# Altium footprint library HANDS-FREEE-PcbLib-V1.9.PcbLib: 236 footprints (part 13 of 16)
Each footprint in its own frame and in the unit in brackets; x right, y up, seen from the top. Pads: shape width x height; smd on the part's side, far side on the other; paste and mask are expansions set on the pad; w line width, h text height; cw(c..) or ccw(c..) is an arc to the next point about the centre after c.
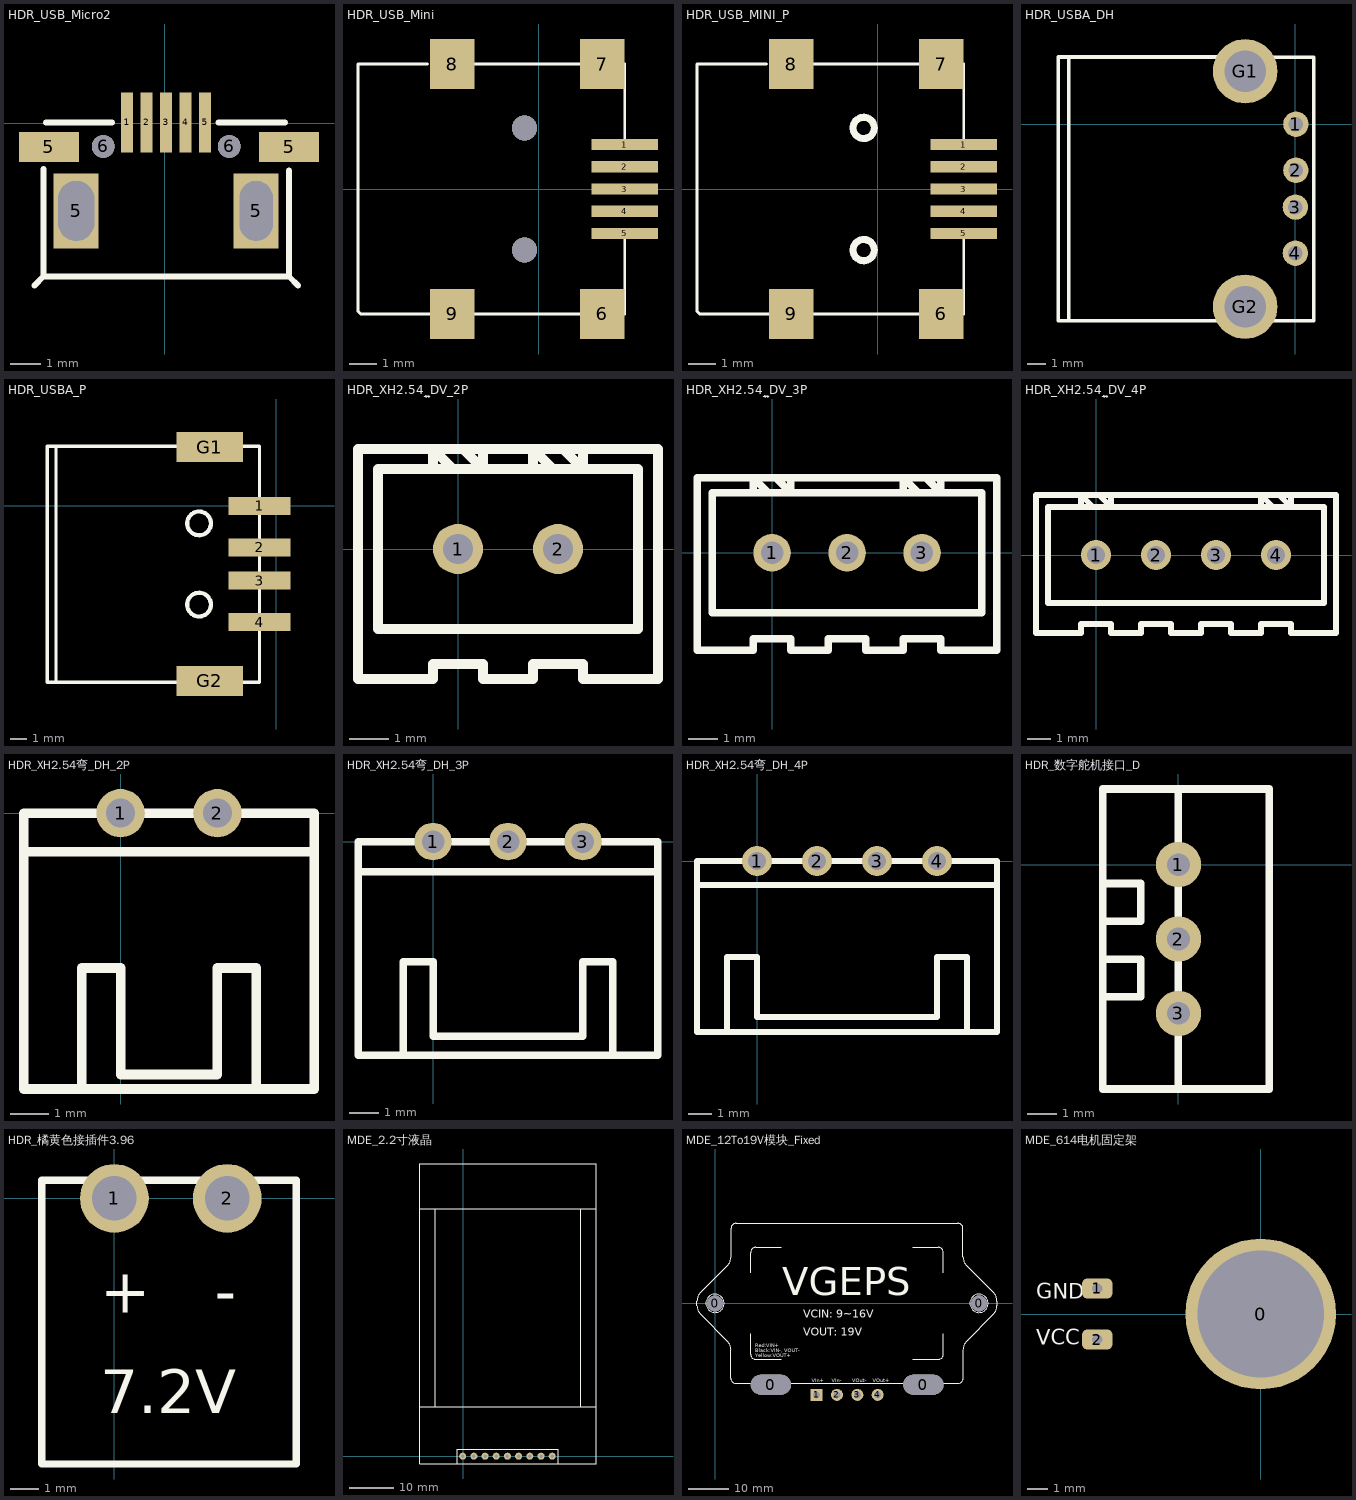
[diagram p12: the footprints below, top view; thin cyan lines are the x and y axes]

## HDR_USB_Micro2 [mm]
pads (11):
  rect 0.4x2 smd: 1(-1.252,0.029) 2(-0.602,0.029) 3(0.048,0.029) 4(0.698,0.029) 5(1.348,0.029)
  rect 2x1 smd: 5(-3.859,-0.784) 5(4.142,-0.784)
  rect 1.5x2.5 hole 1.2 slot 2 at 90 deg: 5(-2.952,-2.921)
  rect 1.5x2.5 hole 1.1 slot 2 at 90 deg: 5(3.048,-2.921)
  round 0.762 hole 0.762: 6(-2.052,-0.771) 6(2.148,-0.771)
Top Overlay:
  lines w0.2: -4.046,-1.52 -4.046,-5.109 4.142,-5.109 4.142,-1.571 ; -3.961,0.029 -1.76,0.029 ; 1.796,0.029 4.015,0.029
  lines w0.203: -4.349,-5.412 -4.046,-5.109 ; 4.142,-5.109 4.445,-5.412

## HDR_USB_Mini [mm]
pads (9):
  rect 2.4x0.4 smd: 1(3.1,1.6) 2(3.1,0.8) 3(3.1,0) 4(3.1,-0.8) 5(3.1,-1.6)
  rect 1.6x1.8 smd: 6(2.3,-4.5) 7(2.3,4.5) 8(-3.1,4.5) 9(-3.1,-4.5)
via -0.5,2.2 diameter 0.9 hole 0.9
via -0.5,-2.2 diameter 0.9 hole 0.9
Top Overlay:
  lines w0.1: -4,4.5 -6.5,4.5 -6.5,-4.4 -6.4,-4.5 -3.9,-4.5 ; -2.3,-4.5 1.5,-4.5 ; -2.3,4.5 1.5,4.5 ; 3.1,-4.5 3.1,-1.8 ; 3.1,1.8 3.1,4.5

## HDR_USB_MINI_P [mm]
pads (9):
  rect 2.4x0.4 smd: 1(3.1,1.6) 2(3.1,0.8) 3(3.1,0) 4(3.1,-0.8) 5(3.1,-1.6)
  rect 1.6x1.8 smd: 6(2.3,-4.5) 7(2.3,4.5) 8(-3.1,4.5) 9(-3.1,-4.5)
Top Overlay:
  circle w0.254: c-0.5,2.2 r0.383
  circle w0.254: c-0.5,-2.2 r0.383
  lines w0.1: -4,4.5 -6.5,4.5 -6.5,-4.4 -6.4,-4.5 -3.9,-4.5 ; -2.3,-4.5 1.5,-4.5 ; -2.3,4.5 1.5,4.5 ; 3.1,-4.5 3.1,-1.8 ; 3.1,1.8 3.1,4.5

## HDR_USBA_DH [mm]
pads (6):
  round 1.4 hole 0.8: 1(0.028,0) 2(0.028,-2.54) 3(0,-4.572) 4(0,-7.112)
  round 3.556 hole 2.286: G1(-2.767,2.921) G2(-2.771,-10.068)
Top Overlay:
  lines w0.2: -13.081,-10.847 -2.779,-10.847 ; -13.081,3.707 -2.768,3.707
  lines w0.203: -13.081,-10.847 -13.081,3.707 ; -12.502,-10.847 -12.502,3.707 ; -2.771,-10.839 1.019,-10.839 1.019,-6.967 1.019,-0.068 1.019,3.699 -2.76,3.699

## HDR_USBA_P [mil]
pads (6):
  rect 150x44 smd: 1(-40,0) 2(-40,-100) 3(-40,-180) 4(-40,-280)
  rect 160x72 smd: G1(-160,142) G2(-160,-422)
Top Overlay:
  circle w10: c-186,-238 r28.6
  circle w10: c-186,-42 r28.6
  lines w8: -531.21,-426.1 -531.21,143 ; -552,-425.1 -552,144 -40,144 -40,-425.1 -552,-425.1

## HDR_XH2.54ֱ_DV_2P [mil]
pads (2):
  round 50 hole 30: 1(0,0) 2(100,0)
Top Overlay:
  lines w10: -5,80 -25,100 ; 5,100 25,80 ; 95,80 75,100 ; 105,100 125,80 ; 200,-110 200,-100 ; -25,80 -25,100 ; -25,80 -80,80 -80,-80 180,-80 180,80 125,80 ; -25,80 25,80 ; -25,100 -100,100 -100,0 -100,-130 -25,-130 -25,-115 25,-115 25,-130 75,-130 75,-115 125,-115 125,-130 200,-130 200,100 125,100 ; -25,100 25,100 ; 25,80 25,100 ; 25,80 75,80 ; 25,100 75,100 ; 75,80 75,100 ; 75,80 125,80 ; 75,100 125,100 ; 125,80 125,100 ; 125,80 125,100

## HDR_XH2.54ֱ_DV_3P [mil]
pads (3):
  round 50 hole 30: 1(0,0) 2(100,0) 3(200,0)
Top Overlay:
  lines w10: -5,80 -25,100 ; 5,100 25,80 ; 195,80 175,100 ; 200,100 75,100 25,100 ; 205,100 225,80 ; -25,80 -25,100 ; -25,80 -80,80 -80,-80 280,-80 280,80 75,80 25,80 ; -25,80 25,80 ; -25,100 -100,100 -100,0 -100,-130 -25,-130 -25,-115 25,-115 25,-130 75,-130 75,-115 125,-115 125,-130 175,-130 175,-115 225,-115 225,-130 300,-130 300,100 225,100 ; -25,100 25,100 ; 25,80 25,100 ; 175,100 225,100 ; 175,100 175,80 225,80 ; 225,80 225,100 ; 225,80 225,100

## HDR_XH2.54ֱ_DV_4P [mil]
pads (4):
  round 50 hole 30: 1(0,0) 2(100,0) 3(200,0) 4(300,0)
Top Overlay:
  lines w10: -5,80 -25,100 ; 5,100 25,80 ; 295,80 275,100 ; 305,100 325,80 ; -25,80 -25,100 ; -25,80 -80,80 -80,-80 380,-80 380,80 75,80 25,80 ; -25,80 25,80 ; -25,100 -100,100 -100,0 -100,-130 -25,-130 -25,-115 25,-115 25,-130 75,-130 75,-115 125,-115 125,-130 175,-130 175,-115 225,-115 225,-130 275,-130 275,-115 325,-115 325,-130 400,-130 400,100 325,100 ; -25,100 25,100 ; 25,80 25,100 ; 25,100 75,100 275,100 ; 275,100 275,80 325,80 ; 275,100 325,100 ; 325,80 325,100 ; 325,80 325,100

## HDR_XH2.54弯_DH_2P [mil]
pads (2):
  round 50 hole 30: 1(0,0) 2(100,0)
Top Overlay:
  lines w10: -100,-40 200,-40 ; -40,-285 -40,-160 0,-160 0,-270 100,-270 100,-160 130,-160 140,-160 140,-280 ; -100,-285 -100,0 200,0 200,-285 -100,-285

## HDR_XH2.54弯_DH_3P [mil]
pads (3):
  round 50 hole 30: 1(0,0) 2(100,0) 3(200,0)
Top Overlay:
  lines w10: -100,-40 300,-40 ; -40,-285 -40,-160 0,-160 0,-260 90,-260 130,-260 200,-260 200,-160 240,-160 240,-285 ; -100,-285 -100,0 300,0 300,-285 -100,-285

## HDR_XH2.54弯_DH_4P [mil]
pads (4):
  round 50 hole 30: 1(0,0) 2(100,0) 3(200,0) 4(300,0)
Top Overlay:
  lines w10: -100,-40 400,-40 ; -50,-285 -50,-160 0,-160 0,-260 300,-260 300,-160 350,-160 350,-285 ; -100,-285 -100,0 400,0 400,-285 -100,-285

## HDR_数字舵机接口_D [mil]
height 314.96
pads (3):
  round 60 hole 30: 1(0,0) 2(0,-98.43) 3(0,-196.85)
Top Overlay:
  lines w10: -100,-175 -50,-175 -50,-125 -100,-125 ; -100,-75 -50,-75 -50,-25 -100,-25 ; 0,-296.85 0,100 ; 0,-200 10,-200 ; -100,-296.85 -100,100 120,100 120,-296.85 -100,-296.85

## HDR_橘黄色接插件3.96 [mm] "7.2V接插件"
height 10
pads (2):
  round 2.4 hole 1.55: 1(0,0) 2(3.937,0)
Top Overlay:
  lines w0.254: -2.54,-9.271 -2.54,0.635 6.35,0.635 6.35,-9.271 -2.54,-9.271
  text "-" at 3.5,-4 h1.52
  text "+" at -0.5,-4 h1.52
  text "7.2V" at -0.5,-7.5 h1.52

## MDE_2.2寸液晶 [mm]
pads (9):
  round 1.6 hole 0.8: 1(-0.127,0) 2(2.413,0) 3(4.953,0) 4(7.493,0) 5(10.033,0) 6(12.573,0) 7(15.113,0) 8(17.653,0) 9(20.193,0)
Top Overlay:
  lines w0.254: -9.906,11.176 30.226,11.176 ; -9.906,56.134 30.226,56.134 ; -6.35,11.176 -6.35,56.134 ; -1.27,-1.778 -9.906,-1.778 -9.906,66.294 30.226,66.294 30.226,-1.778 21.59,-1.778 ; 26.67,11.176 26.67,53.086 26.67,56.134 ; 21.59,-1.778 21.59,1.524 -1.397,1.524 -1.397,-1.778 21.59,-1.778

## MDE_12To19V模块_Fixed [mm]
pads (8):
  round 4 hole 4: 0(0,0) 0(65.964,0)
  oval 10x5 hole 5 slot 10 at 0 deg: 0(13.97,-20.32) 0(52.07,-20.32)
  rect 3x3 hole 1.75: 1(25.4,-22.86)
  round 3 hole 1.75: 2(30.48,-22.86) 3(35.56,-22.86) 4(40.64,-22.86)
Top Overlay:
  circle w0.254: c65.964,0 r2.29
  circle w0.254: c0,0 r2.29
  lines w0.254: 3.102,-9.452 cw(c0.934,-11.62) 4,-11.62 ; 3.102,-9.452 -3.602,-2.748 cw(c-1.434,-0.58) -4.5,-0.58 -4.5,0 -4.5,0.58 cw(c-1.434,0.58) -3.602,2.748 3.102,9.452 ; 3.102,9.452 ccw(c0.934,11.62) 4,11.62 4,18.73 cw(c5.27,18.73) 5.27,20 33,20 ; 3.98,-11.62 3.98,-18.73 ccw(c5.25,-18.73) 5.25,-20 32.98,-20 60.71,-20 ccw(c60.71,-18.73) 61.98,-18.73 61.98,-11.62 ; 8.89,-7.62 8.89,-12.7 ccw(c10.16,-12.7) 10.16,-13.97 16.51,-13.97 ; 8.89,7.62 8.89,12.7 cw(c10.16,12.7) 10.16,13.97 16.51,13.97 ; 32.96,20 60.69,20 cw(c60.69,18.73) 61.96,18.73 61.96,11.62 ccw(c65.026,11.62) 62.858,9.452 ; 49.45,-13.97 55.8,-13.97 ccw(c55.8,-12.7) 57.07,-12.7 57.07,-7.62 ; 49.45,13.97 55.8,13.97 cw(c55.8,12.7) 57.07,12.7 57.07,7.62 ; 61.96,-11.62 cw(c65.026,-11.62) 62.858,-9.452 ; 62.858,-9.452 69.562,-2.748 ccw(c67.394,-0.58) 70.46,-0.58 70.46,0 70.46,0.58 ccw(c67.394,0.58) 69.562,2.748 62.858,9.452
  text "VOut+" at 39.37,-19.685 h0.9
  text "VOut-" at 34.29,-19.685 h0.9
  text "VIn-" at 29.21,-19.685 h0.9
  text "VIn+" at 24.13,-19.685 h0.9
  text "Black:VIN-, VOUT-" at 10.033,-12.192 h0.9
  text "Red:VIN+" at 10.033,-10.922 h0.9
  text "VGEPS" at 16.764,2.032 h7
  text "VCIN: 9~16V" at 22.098,-3.556 h2
  text "VOUT: 19V" at 22.098,-8.128 h2
  text "Yellow:VOUT+" at 10.033,-13.462 h0.9

## MDE_614电机固定架 [mm]
pads (3):
  round 7.5 hole 6.3: 0(0,0)
  rrect50% 1.5x1 hole 0.508: 1(-8.128,1.27) 2(-8.128,-1.27)
Top Overlay:
  text "VCC" at -11.176,-1.524 h0.76
  text "GND" at -11.176,0.762 h0.76